# EAGLE library part XILINX-XC3S250E-4TQG144C (library harrison)
Xilinx FPGA
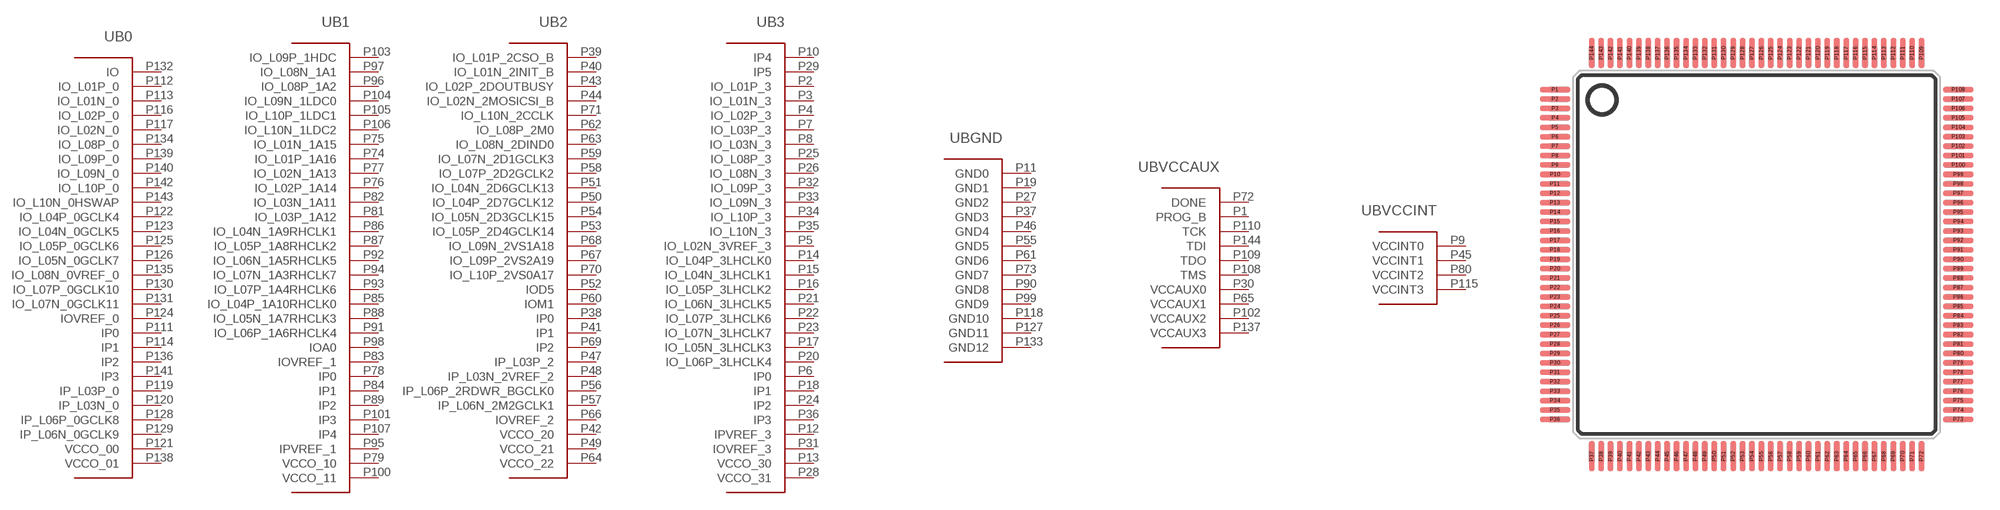
[diagram p50: symbol with the pads of TQ144; footprint TQ144]

Designator prefix U; gates B0=XC3S250ETQ144_0 B1=XC3S250ETQ144_1 B2=XC3S250ETQ144_2 B3=XC3S250ETQ144_3 BGND=XC3S250ETQ144_GND BVCCAUX=XC3S250ETQ144_VCCAUX BVCCINT=XC3S250ETQ144_VCCINT

## XILINX-XC3S250E-4TQG144C (RNUMBER: R00701; VAL: XC3S100E-4TQG144C)  [TQ144]
P1  BVCCAUX:PROG_B
P2  B3:IO_L01P_3
P3  B3:IO_L01N_3
P4  B3:IO_L02P_3
P5  B3:IO_L02N_3VREF_3
P6  B3:IP0  in
P7  B3:IO_L03P_3
P8  B3:IO_L03N_3
P9  BVCCINT:VCCINT0  pwr
P10  B3:IP4  in
P11  BGND:GND0  pwr
P12  B3:IPVREF_3  in
P13  B3:VCCO_30  pwr
P14  B3:IO_L04P_3LHCLK0
P15  B3:IO_L04N_3LHCLK1
P16  B3:IO_L05P_3LHCLK2
P17  B3:IO_L05N_3LHCLK3
P18  B3:IP1  in
P19  BGND:GND1  pwr
P20  B3:IO_L06P_3LHCLK4
P21  B3:IO_L06N_3LHCLK5
P22  B3:IO_L07P_3LHCLK6
P23  B3:IO_L07N_3LHCLK7
P24  B3:IP2  in
P25  B3:IO_L08P_3
P26  B3:IO_L08N_3
P27  BGND:GND2  pwr
P28  B3:VCCO_31  pwr
P29  B3:IP5  in
P30  BVCCAUX:VCCAUX0  pwr
P31  B3:IOVREF_3
P32  B3:IO_L09P_3
P33  B3:IO_L09N_3
P34  B3:IO_L10P_3
P35  B3:IO_L10N_3
P36  B3:IP3  in
P37  BGND:GND3  pwr
P38  B2:IP0  in
P39  B2:IO_L01P_2CSO_B
P40  B2:IO_L01N_2INIT_B
P41  B2:IP1  in
P42  B2:VCCO_20  pwr
P43  B2:IO_L02P_2DOUTBUSY
P44  B2:IO_L02N_2MOSICSI_B
P45  BVCCINT:VCCINT1  pwr
P46  BGND:GND4  pwr
P47  B2:IP_L03P_2  in
P48  B2:IP_L03N_2VREF_2  in
P49  B2:VCCO_21  pwr
P50  B2:IO_L04P_2D7GCLK12
P51  B2:IO_L04N_2D6GCLK13
P52  B2:IOD5
P53  B2:IO_L05P_2D4GCLK14
P54  B2:IO_L05N_2D3GCLK15
P55  BGND:GND5  pwr
P56  B2:IP_L06P_2RDWR_BGCLK0  in
P57  B2:IP_L06N_2M2GCLK1  in
P58  B2:IO_L07P_2D2GCLK2
P59  B2:IO_L07N_2D1GCLK3
P60  B2:IOM1
P61  BGND:GND6  pwr
P62  B2:IO_L08P_2M0
P63  B2:IO_L08N_2DIND0
P64  B2:VCCO_22  pwr
P65  BVCCAUX:VCCAUX1  pwr
P66  B2:IOVREF_2
P67  B2:IO_L09P_2VS2A19
P68  B2:IO_L09N_2VS1A18
P69  B2:IP2  in
P70  B2:IO_L10P_2VS0A17
P71  B2:IO_L10N_2CCLK
P72  BVCCAUX:DONE
P73  BGND:GND7  pwr
P74  B1:IO_L01P_1A16
P75  B1:IO_L01N_1A15
P76  B1:IO_L02P_1A14
P77  B1:IO_L02N_1A13
P78  B1:IP0  in
P79  B1:VCCO_10  pwr
P80  BVCCINT:VCCINT2  pwr
P81  B1:IO_L03P_1A12
P82  B1:IO_L03N_1A11
P83  B1:IOVREF_1
P84  B1:IP1  in
P85  B1:IO_L04P_1A10RHCLK0
P86  B1:IO_L04N_1A9RHCLK1
P87  B1:IO_L05P_1A8RHCLK2
P88  B1:IO_L05N_1A7RHCLK3
P89  B1:IP2  in
P90  BGND:GND8  pwr
P91  B1:IO_L06P_1A6RHCLK4
P92  B1:IO_L06N_1A5RHCLK5
P93  B1:IO_L07P_1A4RHCLK6
P94  B1:IO_L07N_1A3RHCLK7
P95  B1:IPVREF_1  in
P96  B1:IO_L08P_1A2
P97  B1:IO_L08N_1A1
P98  B1:IOA0
P99  BGND:GND9  pwr
P100  B1:VCCO_11  pwr
P101  B1:IP3  in
P102  BVCCAUX:VCCAUX2  pwr
P103  B1:IO_L09P_1HDC
P104  B1:IO_L09N_1LDC0
P105  B1:IO_L10P_1LDC1
P106  B1:IO_L10N_1LDC2
P107  B1:IP4  in
P108  BVCCAUX:TMS
P109  BVCCAUX:TDO
P110  BVCCAUX:TCK
P111  B0:IP0  in
P112  B0:IO_L01P_0
P113  B0:IO_L01N_0
P114  B0:IP1  in
P115  BVCCINT:VCCINT3  pwr
P116  B0:IO_L02P_0
P117  B0:IO_L02N_0
P118  BGND:GND10  pwr
P119  B0:IP_L03P_0  in
P120  B0:IP_L03N_0  in
P121  B0:VCCO_00  pwr
P122  B0:IO_L04P_0GCLK4
P123  B0:IO_L04N_0GCLK5
P124  B0:IOVREF_0
P125  B0:IO_L05P_0GCLK6
P126  B0:IO_L05N_0GCLK7
P127  BGND:GND11  pwr
P128  B0:IP_L06P_0GCLK8  in
P129  B0:IP_L06N_0GCLK9  in
P130  B0:IO_L07P_0GCLK10
P131  B0:IO_L07N_0GCLK11
P132  B0:IO
P133  BGND:GND12  pwr
P134  B0:IO_L08P_0
P135  B0:IO_L08N_0VREF_0
P136  B0:IP2  in
P137  BVCCAUX:VCCAUX3  pwr
P138  B0:VCCO_01  pwr
P139  B0:IO_L09P_0
P140  B0:IO_L09N_0
P141  B0:IP3  in
P142  B0:IO_L10P_0
P143  B0:IO_L10N_0HSWAP
P144  BVCCAUX:TDI

## Footprint TQ144 (pad centres in mm)
smd 1.6 x 0.3: P1 -10.7,8.75; P2 -10.7,8.25; P3 -10.7,7.75; P4 -10.7,7.25; P5 -10.7,6.75; P6 -10.7,6.25; P7 -10.7,5.75; P8 -10.7,5.25; P9 -10.7,4.75; P10 -10.7,4.25; P11 -10.7,3.75; P12 -10.7,3.25; P13 -10.7,2.75; P14 -10.7,2.25; P15 -10.7,1.75; P16 -10.7,1.25; P17 -10.7,0.75; P18 -10.7,0.25; P19 -10.7,-0.25; P20 -10.7,-0.75; P21 -10.7,-1.25; P22 -10.7,-1.75; P23 -10.7,-2.25; P24 -10.7,-2.75; P25 -10.7,-3.25; P26 -10.7,-3.75; P27 -10.7,-4.25; P28 -10.7,-4.75; P29 -10.7,-5.25; P30 -10.7,-5.75; P31 -10.7,-6.25; P32 -10.7,-6.75; P33 -10.7,-7.25; P34 -10.7,-7.75; P35 -10.7,-8.25; P36 -10.7,-8.75; P73 10.7,-8.75; P74 10.7,-8.25; P75 10.7,-7.75; P76 10.7,-7.25; P77 10.7,-6.75; P78 10.7,-6.25; P79 10.7,-5.75; P80 10.7,-5.25; P81 10.7,-4.75; P82 10.7,-4.25; P83 10.7,-3.75; P84 10.7,-3.25; P85 10.7,-2.75; P86 10.7,-2.25; P87 10.7,-1.75; P88 10.7,-1.25; P89 10.7,-0.75; P90 10.7,-0.25; P91 10.7,0.25; P92 10.7,0.75; P93 10.7,1.25; P94 10.7,1.75; P95 10.7,2.25; P96 10.7,2.75; P97 10.7,3.25; P98 10.7,3.75; P99 10.7,4.25; P100 10.7,4.75; P101 10.7,5.25; P102 10.7,5.75; P103 10.7,6.25; P104 10.7,6.75; P105 10.7,7.25; P106 10.7,7.75; P107 10.7,8.25; P108 10.7,8.75
smd 0.3 x 1.6: P37 -8.75,-10.7; P38 -8.25,-10.7; P39 -7.75,-10.7; P40 -7.25,-10.7; P41 -6.75,-10.7; P42 -6.25,-10.7; P43 -5.75,-10.7; P44 -5.25,-10.7; P45 -4.75,-10.7; P46 -4.25,-10.7; P47 -3.75,-10.7; P48 -3.25,-10.7; P49 -2.75,-10.7; P50 -2.25,-10.7; P51 -1.75,-10.7; P52 -1.25,-10.7; P53 -0.75,-10.7; P54 -0.25,-10.7; P55 0.25,-10.7; P56 0.75,-10.7; P57 1.25,-10.7; P58 1.75,-10.7; P59 2.25,-10.7; P60 2.75,-10.7; P61 3.25,-10.7; P62 3.75,-10.7; P63 4.25,-10.7; P64 4.75,-10.7; P65 5.25,-10.7; P66 5.75,-10.7; P67 6.25,-10.7; P68 6.75,-10.7; P69 7.25,-10.7; P70 7.75,-10.7; P71 8.25,-10.7; P72 8.75,-10.7; P109 8.75,10.7; P110 8.25,10.7; P111 7.75,10.7; P112 7.25,10.7; P113 6.75,10.7; P114 6.25,10.7; P115 5.75,10.7; P116 5.25,10.7; P117 4.75,10.7; P118 4.25,10.7; P119 3.75,10.7; P120 3.25,10.7; P121 2.75,10.7; P122 2.25,10.7; P123 1.75,10.7; P124 1.25,10.7; P125 0.75,10.7; P126 0.25,10.7; P127 -0.25,10.7; P128 -0.75,10.7; P129 -1.25,10.7; P130 -1.75,10.7; P131 -2.25,10.7; P132 -2.75,10.7; P133 -3.25,10.7; P134 -3.75,10.7; P135 -4.25,10.7; P136 -4.75,10.7; P137 -5.25,10.7; P138 -5.75,10.7; P139 -6.25,10.7; P140 -6.75,10.7; P141 -7.25,10.7; P142 -7.75,10.7; P143 -8.25,10.7; P144 -8.75,10.7